# EAGLE library part SP274 (library diode)
Diode Array - LittleFuse SCR Diode Array for ESD and Transient Overvoltage Protection
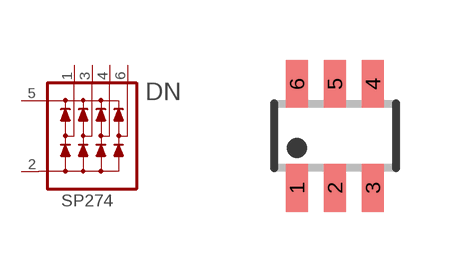
[diagram p6: symbol with the pads of SOT23-6L; footprint SOT23-6L]

Designator prefix DN

## SP274  [SOT23-6L]
1  D1  pas
2  V-  pas
3  D2  pas
4  D3  pas
5  V+  pas
6  D4  pas

## Footprint SOT23-6L (pad centres in mm)
Small Outline Transistor
smd 0.55 x 1.2: 1 -0.95,-1.3; 2 0,-1.3; 3 0.95,-1.3; 4 0.95,1.3; 5 0,1.3; 6 -0.95,1.3